# Altium schematic symbol library SCH - RF - CONNECTOR - SMA U-FL.SchLib: 1 symbol
Pins are listed as number, name and electrical type; pins without a type are passive.

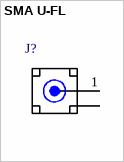
[diagram p0: symbol SMA U-FL]

## SMA U-FL
designator J?
pins: 1 SIGNAL, 2 GND (power)